# Altium schematic symbol library OpAmp_LM3588_1.Schlib: 1 symbol
Pins are listed as number, name and electrical type; pins without a type are passive.

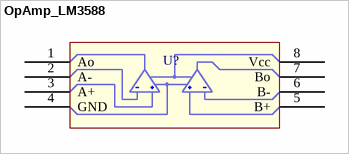
[diagram p0: symbol OpAmp_LM3588]

## OpAmp_LM3588
designator U?  (value not drawn)
footprint DIP8-tiny
pins: 1 Ao, 2 A-, 3 A+, 4 GND, 5 B+, 6 B-, 7 Bo, 8 Vcc